# EAGLE library part DP3T (library mastrogippo)
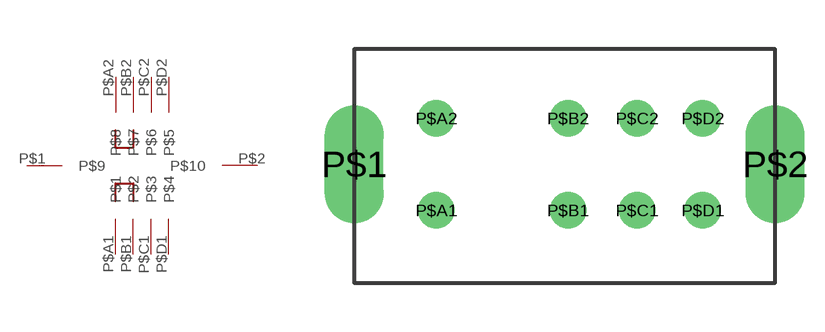
[diagram p47: symbol with the pads of DP3T; footprint DP3T]

Designator prefix -

## DP3T  [DP3T]
P$1  P$9
P$2  P$10
P$A1  P$1
P$A2  P$8
P$B1  P$2
P$B2  P$7
P$C1  P$3
P$C2  P$6
P$D1  P$4
P$D2  P$5

## Footprint DP3T (pad centres in mm)
drill 1.2 long: P$1 0,3.6; P$2 12.8,3.6
drill 0.6: P$A1 2.5,2.2; P$A2 2.5,5; P$B1 6.5,2.2; P$B2 6.5,5; P$C1 8.6,2.2; P$C2 8.6,5; P$D1 10.6,2.2; P$D2 10.6,5